# Altium footprint library Motor_Pwr_Conn - 01.02.26 - 14.PcbLib: 1 footprints
Each footprint in its own frame and in the unit in brackets; x right, y up, seen from the top. Pads: shape width x height; smd on the part's side, far side on the other; paste and mask are expansions set on the pad; w line width, h text height; cw(c..) or ccw(c..) is an arc to the next point about the centre after c.
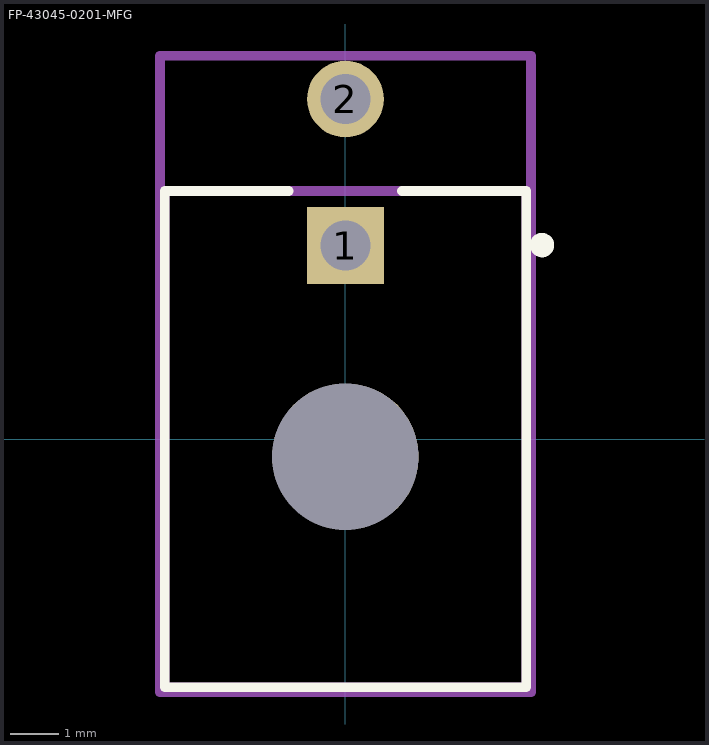
[diagram p0: the footprint, top view; thin cyan lines are the x and y axes]

## FP-43045-0201-MFG [mm]
pads (3):
  rect 1.57x1.57 hole 1.02 paste-2539.97 mask+0: 1(0,3.965)
  round 1.57 hole 1.02 paste-2539.97 mask+0: 2(0,6.965)
  round 3 hole 3 unplated paste-2539.97 mask+0: ""(0,-0.355)
Top Overlay:
  circle w0.25: c4.025,3.975 r0.125
  lines w0.2: -1.16,5.08 -3.7,5.08 -3.7,-5.08 3.7,-5.08 3.7,5.08 1.16,5.08
Top Assembly:
  lines w0.2: -3.8,-5.18 -3.8,7.85 3.8,7.85 3.8,-5.18 -3.8,-5.18
  text ".Designator" at 0,1.523 h1
Top 3D Body:
  lines w0.2: -3.7,-5.08 -3.7,5.08 3.7,5.08 3.7,-5.08 -3.7,-5.08
Top Courtyard:
  lines w0.2: -3.8,-5.18 -3.8,7.85 3.8,7.85 3.8,-5.18 -3.8,-5.18
Top Component Center:
  lines w0.1: -0.5,0 0.5,0 ; 0,-0.5 0,0.5
3D body "Conn_Molex_43045-0201_eec.STEP": height 0.25, standoff 0, extent -3.8,-5.18 3.8,7.85